# Altium footprint library SOT95P250X110-6N.PcbLib: 1 footprints
Each footprint in its own frame and in the unit in brackets; x right, y up, seen from the top. Pads: shape width x height; smd on the part's side, far side on the other; paste and mask are expansions set on the pad; w line width, h text height; cw(c..) or ccw(c..) is an arc to the next point about the centre after c.
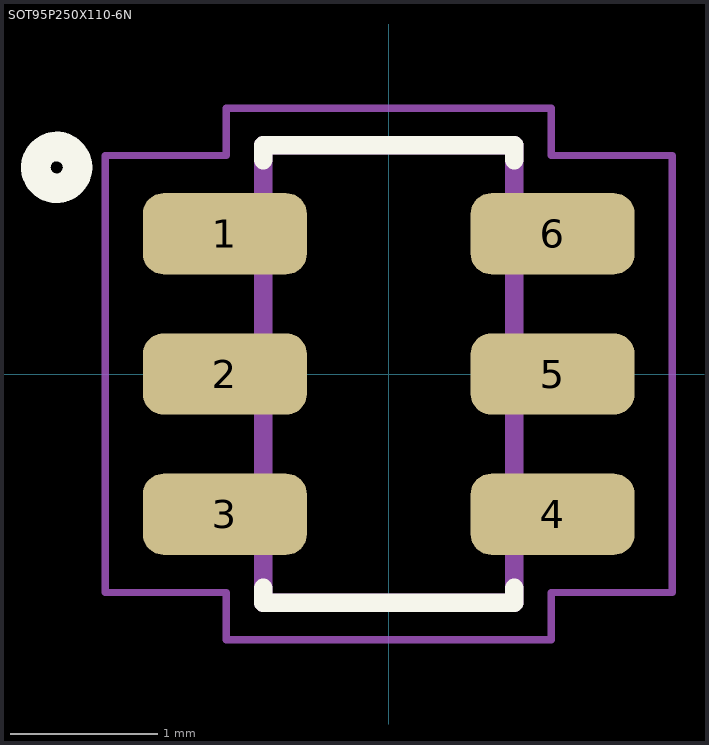
[diagram p0: the footprint, top view; thin cyan lines are the x and y axes]

## SOT95P250X110-6N [mm]
pads (6):
  rrect50% 1.11x0.55 smd: 1(-1.11,0.95) 2(-1.11,0) 3(-1.11,-0.95) 4(1.11,-0.95) 5(1.11,0) 6(1.11,0.95)
Top Overlay:
  circle w0.2: c-2.25,1.4 r0.141
  lines w0.127: -0.85,-1.45 -0.85,-1.55 0.85,-1.55 0.85,-1.45 ; -0.85,1.45 -0.85,1.55 0.85,1.55 0.85,1.45
Mechanical 13:
  lines w0.127: -0.85,-1.55 0.85,-1.55 0.85,1.55 -0.85,1.55 -0.85,-1.55
Mechanical 15:
  lines w0.05: -1.92,-1.48 -1.1,-1.48 -1.1,-1.8 1.1,-1.8 1.1,-1.48 1.92,-1.48 1.92,1.48 1.1,1.48 1.1,1.8 -1.1,1.8 -1.1,1.48 -1.92,1.48 -1.92,-1.48